# Altium footprint library MSOP-8_L3.0-W3.0-P0.65-LS4.9-BL.PcbLib: 1 footprints
Each footprint in its own frame and in the unit in brackets; x right, y up, seen from the top. Pads: shape width x height; smd on the part's side, far side on the other; paste and mask are expansions set on the pad; w line width, h text height; cw(c..) or ccw(c..) is an arc to the next point about the centre after c.
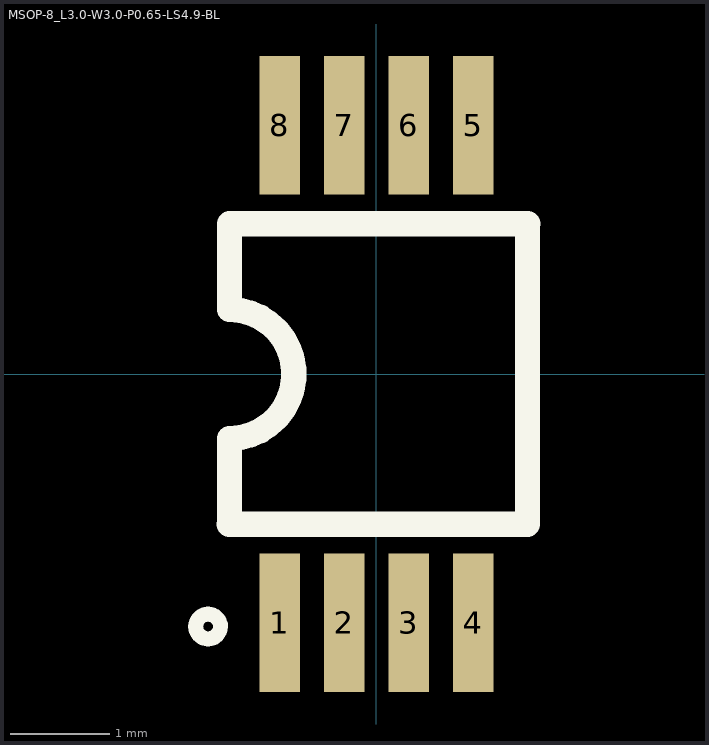
[diagram p0: the footprint, top view; thin cyan lines are the x and y axes]

## MSOP-8_L3.0-W3.0-P0.65-LS4.9-BL [mil]
pads (8):
  rect 16x55 smd: 1(-38.39,-98.5) 2(-12.8,-98.5) 3(12.79,-98.5) 4(38.39,-98.5) 5(38.39,98.5) 6(12.79,98.5) 7(-12.8,98.5) 8(-38.39,98.5)
Top Overlay:
  lines w5.91: -66.76,-95.08 ccw(c-66.7,-100) -66.65,-95.08
  lines w10: -58.31,-59.5 59.8,-59.5 59.8,58.61 ; -58.2,-59.5 -58.2,-25.5 ccw(c-58.2,0) -58.2,25.5 -58.2,59.5 59.91,59.5